# Altium footprint library SOIC127P600X177-16N.PcbLib: 1 footprints
Each footprint in its own frame and in the unit in brackets; x right, y up, seen from the top. Pads: shape width x height; smd on the part's side, far side on the other; paste and mask are expansions set on the pad; w line width, h text height; cw(c..) or ccw(c..) is an arc to the next point about the centre after c.
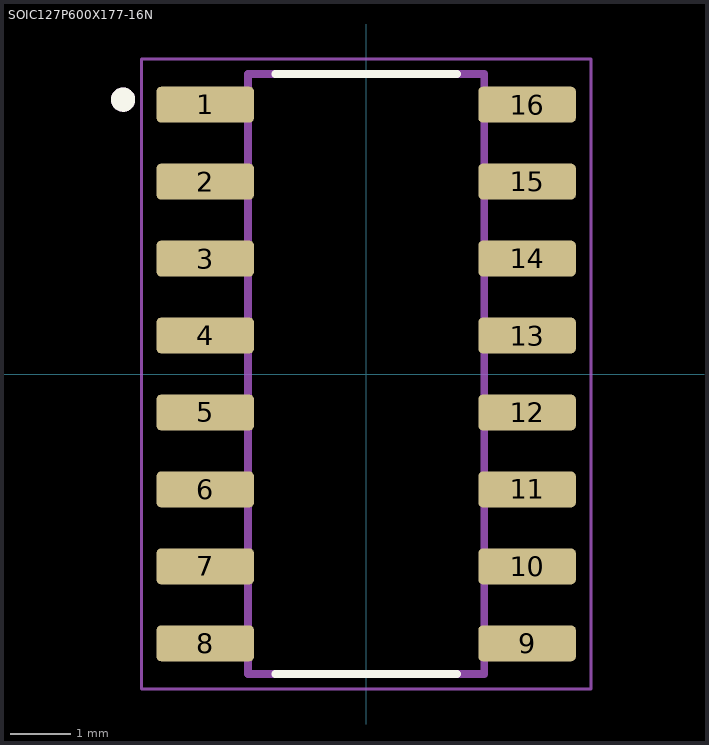
[diagram p0: the footprint, top view; thin cyan lines are the x and y axes]

## SOIC127P600X177-16N [mm]
pads (16):
  rrect25% 1.61x0.59 smd: 1(-2.655,4.445) 2(-2.655,3.175) 3(-2.655,1.905) 4(-2.655,0.635) 5(-2.655,-0.635) 6(-2.655,-1.905) 7(-2.655,-3.175) 8(-2.655,-4.445) 9(2.655,-4.445) 10(2.655,-3.175) 11(2.655,-1.905) 12(2.655,-0.635) 13(2.655,0.635) 14(2.655,1.905) 15(2.655,3.175) 16(2.655,4.445)
Top Overlay:
  circle w0.2: c-4.011,4.527 r0.1
  lines w0.127: -1.5,-4.95 1.5,-4.95 ; -1.5,4.95 1.5,4.95
Mechanical 13:
  circle w0.2: c-4.011,4.527 r0.1
  lines w0.127: -1.95,-4.95 1.95,-4.95 1.95,4.95 -1.95,4.95 -1.95,-4.95
Mechanical 15:
  lines w0.05: -3.71,-5.2 3.71,-5.2 3.71,5.2 -3.71,5.2 -3.71,-5.2